# Altium footprint library IC_Texas_Instruments_ISO1541DR.PcbLib: 1 footprints
Each footprint in its own frame and in the unit in brackets; x right, y up, seen from the top. Pads: shape width x height; smd on the part's side, far side on the other; paste and mask are expansions set on the pad; w line width, h text height; cw(c..) or ccw(c..) is an arc to the next point about the centre after c.
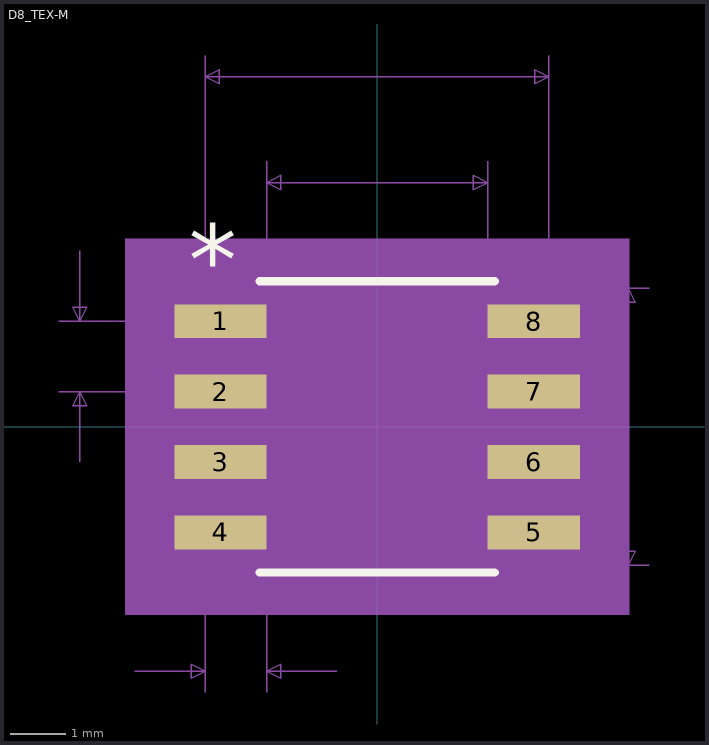
[diagram p0: the footprint, top view; thin cyan lines are the x and y axes]

## D8_TEX-M [mil]
pads (8):
  rect 65.5x24 smd paste+0 mask+0: 1(-111.25,75) 2(-111.25,25) 3(-111.25,-25) 4(-111.25,-75) 5(111.25,-75) 6(111.25,-25) 7(111.25,25) 8(111.25,75)
Top Overlay:
  lines w6: -83.5,-103.5 83.5,-103.5 ; -83.5,103.5 83.5,103.5
  text "*" at -133.75,94 h50
Mechanical 5:
  region: 179,-133.5 -179,-133.5 -179,133.5 179,133.5
Mechanical 7:
  lines w1: -226.25,25 -111.25,25 ; -226.25,75 -111.25,75 ; -211.25,-25 -211.25,25 ; -211.25,125 -211.25,75 ; -172,-173.5 -122,-173.5 ; -122,-188.5 -122,0 -122,263.5 ; -78.5,-188.5 -78.5,0 -78.5,188.5 ; -28.5,-173.5 -78.5,-173.5 ; 0,-98.5 193.5,-98.5 ; 0,98.5 193.5,98.5 ; 78.5,0 78.5,188.5 ; 122,0 122,263.5 ; -211.25,25 -216.25,15 -206.25,15 -211.25,25 ; -211.25,75 -216.25,85 -206.25,85 -211.25,75 ; -122,-173.5 -132,-168.5 -132,-178.5 -122,-173.5 ; -122,248.5 122,248.5 ; -122,248.5 -112,253.5 -112,243.5 -122,248.5 ; -78.5,-173.5 -68.5,-168.5 -68.5,-178.5 -78.5,-173.5 ; -78.5,173.5 78.5,173.5 ; -78.5,173.5 -68.5,178.5 -68.5,168.5 -78.5,173.5 ; 78.5,173.5 68.5,178.5 68.5,168.5 78.5,173.5 ; 122,248.5 112,253.5 112,243.5 122,248.5 ; 178.5,-98.5 178.5,98.5 ; 178.5,-98.5 173.5,-88.5 183.5,-88.5 178.5,-98.5 ; 178.5,98.5 173.5,88.5 183.5,88.5 178.5,98.5
  text "Default Padstyle: RX65p5Y24D0T" at -375,-298.5 h50
  text "Pin One Padstyle: RX65p5Y24D0T" at -375,-358.5 h50
  text "Alt 1 Padstyle: OX60Y90D30P" at -337.5,-538.5 h50
  text "Alt 2 Padstyle: OX90Y60D30P" at -337.5,-598.5 h50
  text "0.157in/3.988mm" at -93.75,193.5 h25
  text "0.244in/6.198mm" at -93.75,268.5 h25
  text "0.197in/5.004mm" at 198.5,-12.5 h25
  text "0.05in/1.27mm" at -393.75,37.5 h25
  text "0.05in/1.27mm" at -181.5,-218.5 h25
Mechanical 13:
  lines w0: -12,98.5 ccw(c0,98.5) 12,98.5
  lines w1: -122,-85 -122,-65 -78.5,-65 -78.5,-85 -122,-85 ; -122,-35 -122,-15 -78.5,-15 -78.5,-35 -122,-35 ; -122,15 -122,35 -78.5,35 -78.5,15 -122,15 ; -122,65 -122,85 -78.5,85 -78.5,65 -122,65 ; -78.5,-98.5 78.5,-98.5 78.5,98.5 -78.5,98.5 -78.5,-98.5 ; 78.5,-85 78.5,-65 122,-65 122,-85 78.5,-85 ; 78.5,-35 78.5,-15 122,-15 122,-35 78.5,-35 ; 78.5,15 78.5,35 122,35 122,15 78.5,15 ; 78.5,65 78.5,85 122,85 122,65 78.5,65
  text "*" at -76,45.5 h50
Mechanical 15:
  region: -98.5,-107 -164,-107 -164,107 -98.5,107 -98.5,118.5 98.5,118.5 98.5,107 164,107 164,-107 98.5,-107 98.5,-118.5 -98.5,-118.5
  lines w6: -164,-107 -164,107 -98.5,107 -98.5,118.5 98.5,118.5 98.5,107 164,107 164,-107 98.5,-107 98.5,-118.5 -98.5,-118.5 -98.5,-107 -164,-107
3D body: height 10, standoff 0, extent 0,0 10,10
3D body "D8_TEX-M.step": height 71.09, standoff 2, extent -122.01,-98.5 122.01,98.5